# Altium footprint library XH250P 白色连接器.PcbLib: 26 footprints (part 1 of 2)
Each footprint in its own frame and in the unit in brackets; x right, y up, seen from the top. Pads: shape width x height; smd on the part's side, far side on the other; paste and mask are expansions set on the pad; w line width, h text height; cw(c..) or ccw(c..) is an arc to the next point about the centre after c.
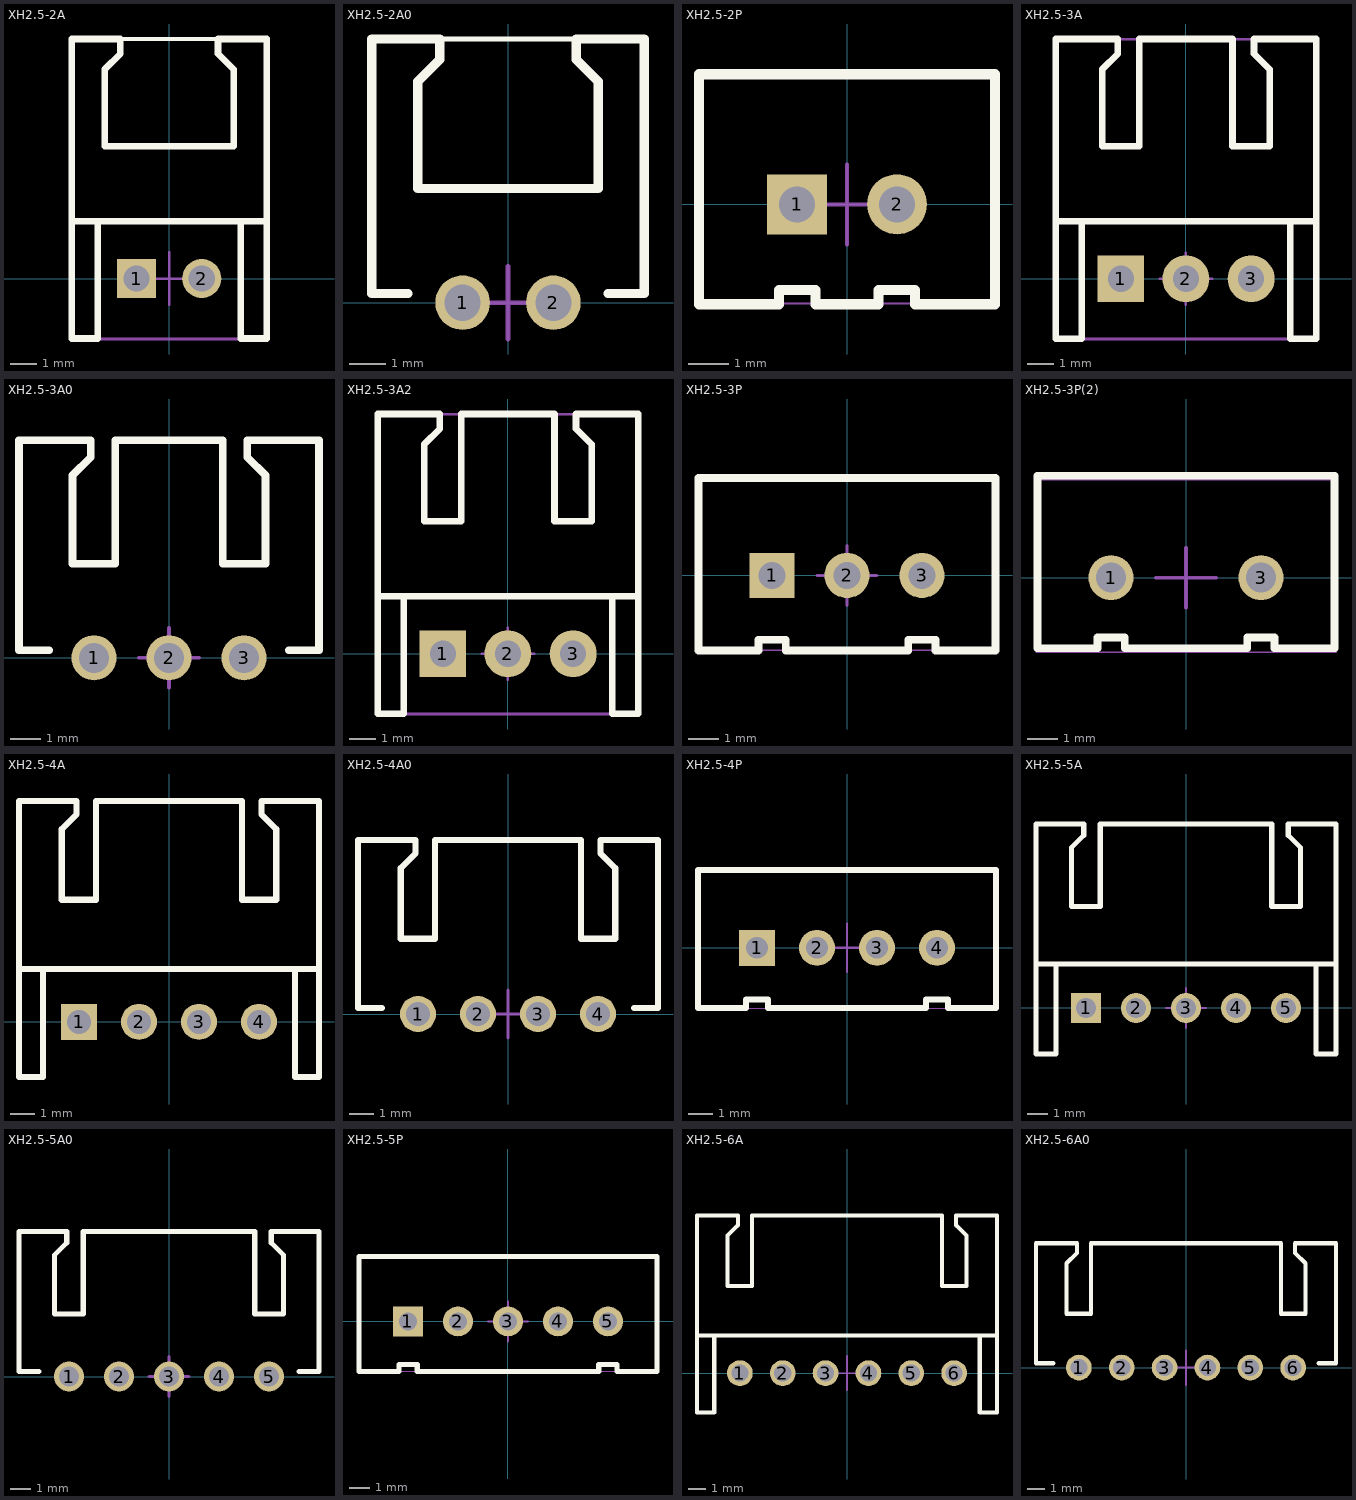
[diagram p0: the footprints below, top view; thin cyan lines are the x and y axes]

## XH2.5-2A [mm] "浙江合业电子"
height 5.75
pads (2):
  rect 1.5x1.5 hole 1: 1(-1.25,0)
  round 1.5 hole 1: 2(1.25,0)
Top Overlay:
  lines w0.15: -1.896,9.2 1.875,9.2
  lines w0.254: -3.75,2.2 3.75,2.2 ; -2.75,2.193 -2.75,-2.3 -3.75,-2.3 -3.75,9.2 -1.875,9.2 -1.875,8.637 -2.48,8.032 -2.48,5.085 2.48,5.085 2.48,8.032 1.875,8.637 1.875,9.2 3.75,9.2 3.75,-2.3 2.75,-2.3 2.75,2.181
Mechanical 13:
  lines w0.1: -3.766,-2.321 -3.766,9.179 3.734,9.179 3.734,-2.321 -3.766,-2.321
Mechanical 15:
  lines w0.1: -1,0 1,0 ; 0,-1 0,1
3D body: height 5.9, standoff -2.6, extent -3.766,-2.321 3.739,9.179

## XH2.5-2A0 [mm] "浙江合业电子"
height 5.75
pads (2):
  round 1.5 hole 1: 1(-1.25,0) 2(1.25,0)
Top Overlay:
  lines w0.15: -1.896,7.25 1.875,7.25
  lines w0.254: -2.75,0.25 -3.75,0.25 -3.75,7.25 -1.875,7.25 -1.875,6.687 -2.48,6.082 -2.48,3.135 2.48,3.135 2.48,6.082 1.875,6.687 1.875,7.25 3.75,7.25 3.75,0.25 2.75,0.25
Mechanical 15:
  lines w0.127: -1,0 0,0 ; 0,-1 0,0 ; 0,1 0,0 ; 1,0 0,0

## XH2.5-2P [mm] "JST XH白色座"
height 7
pads (2):
  rect 1.5x1.5 hole 0.9: 1(-1.25,0)
  round 1.5 hole 0.9: 2(1.25,0)
Top Overlay:
  lines w0.254: -3.7,-2.5 -3.7,3.25 3.7,3.25 3.7,-2.5 1.702,-2.5 1.702,-2.144 0.787,-2.144 0.787,-2.5 -0.787,-2.5 -0.787,-2.144 -1.702,-2.144 -1.702,-2.5 -3.7,-2.5
Mechanical 13:
  lines w0.05: -3.75,-2.487 -3.75,3.263 3.75,3.263 3.75,-2.487 -3.75,-2.487
Mechanical 15:
  lines w0.1: -1,0 1,0 ; 0,-1 0,1
3D body: height 7.05, standoff -3.35, extent -3.75,-2.487 3.75,3.263

## XH2.5-3A [mm] "浙江合业电子"
height 5.75
pads (3):
  rect 1.8x1.8 hole 1: 1(-2.5,0)
  round 1.8 hole 1: 2(0,0) 3(2.5,0)
Top Overlay:
  lines w0.254: -5,2.2 5,2.2 ; -4,2.193 -4,-2.3 -5,-2.3 -5,9.2 -2.612,9.2 -2.612,8.637 -3.217,8.032 -3.217,5.085 -1.789,5.085 -1.789,9.2 1.789,9.2 1.789,5.085 3.217,5.085 3.217,8.032 2.612,8.637 2.612,9.2 5,9.2 5,-2.3 4,-2.3 4,2.181
Mechanical 13:
  lines w0.1: -5,-2.311 -5,9.189 5.005,9.189 5.005,-2.311 -5,-2.311
Mechanical 15:
  lines w0.1: -1,0 1,0 ; 0,-1 0,1
3D body: height 5.9, standoff -2.6, extent -5,-2.311 5.005,9.189

## XH2.5-3A0 [mm] "浙江合业电子"
height 5.75
pads (3):
  round 1.5 hole 1: 1(-2.5,0) 2(0,0) 3(2.5,0)
Top Overlay:
  lines w0.254: -4,0.25 -5,0.25 -5,7.25 -2.612,7.25 -2.612,6.687 -3.217,6.082 -3.217,3.135 -1.789,3.135 -1.789,7.25 1.789,7.25 1.789,3.135 3.217,3.135 3.217,6.082 2.612,6.687 2.612,7.25 5,7.25 5,0.25 4,0.25
Mechanical 15:
  lines w0.127: -1,0 0,0 ; 0,-1 0,0 ; 0,1 0,0 ; 1,0 0,0

## XH2.5-3A2 [mm] "浙江合业电子"
height 5.75
pads (3):
  rect 1.8x1.8 hole 1: 1(-2.5,0)
  round 1.8 hole 1: 2(0,0) 3(2.5,0)
Top Overlay:
  lines w0.254: -5,2.2 5,2.2 ; -4,2.193 -4,-2.3 -5,-2.3 -5,9.2 -2.612,9.2 -2.612,8.637 -3.217,8.032 -3.217,5.085 -1.789,5.085 -1.789,9.2 1.789,9.2 1.789,5.085 3.217,5.085 3.217,8.032 2.612,8.637 2.612,9.2 5,9.2 5,-2.3 4,-2.3 4,2.181
Mechanical 13:
  lines w0.1: -5,-2.311 5.005,-2.311 5.005,9.189 -5,9.189 -5,-2.311
Mechanical 15:
  lines w0.1: -1,0 1,0 ; 0,-1 0,1
3D body: height 5.9, standoff -2.6, extent -5,-2.311 5.005,9.189

## XH2.5-3P [mm] "JST XH白色座"
height 7
pads (3):
  rect 1.5x1.5 hole 0.9: 1(-2.5,0)
  round 1.5 hole 0.9: 2(0,0) 3(2.5,0)
Top Overlay:
  lines w0.254: -4.95,-2.5 -2.952,-2.5 -2.952,-2.144 -2.037,-2.144 -2.037,-2.5 2.037,-2.5 2.037,-2.144 2.952,-2.144 2.952,-2.5 4.95,-2.5 4.95,3.25 -4.95,3.25 -4.95,-2.5
Mechanical 13:
  lines w0.05: -5,-2.487 -5,3.263 5,3.263 5,-2.487 -5,-2.487
Mechanical 15:
  lines w0.1: -1,0 1,0 ; 0,-1 0,1
3D body: height 7.05, standoff -3.35, extent -5,-2.487 5,3.263

## XH2.5-3P(2) [mm] "JST XH白色座"
height 7
pads (2):
  round 1.5 hole 1: 1(-2.5,0) 3(2.5,0)
Top Overlay:
  lines w0.254: -4.95,-2.35 -4.95,3.4 4.95,3.4 4.95,-2.35 2.952,-2.35 2.952,-1.994 2.037,-1.994 2.037,-2.35 -2.037,-2.35 -2.037,-1.994 -2.952,-1.994 -2.952,-2.35 -4.95,-2.35
Mechanical 13:
  lines w0.05: -5,-2.487 -5,3.263 5,3.263 5,-2.487 -5,-2.487
Mechanical 15:
  lines w0.127: -1,0 0,0 ; 0,-1 0,0 ; 0,1 0,0 ; 1,0 0,0
3D body: height 7.01, standoff -3.39, extent -5,-2.487 5.005,3.263

## XH2.5-4A [mm] "浙江合业电子"
height 5.75
pads (4):
  rect 1.5x1.5 hole 1: 1(-3.75,0)
  round 1.5 hole 1: 2(-1.25,0) 3(1.25,0) 4(3.75,0)
Top Overlay:
  lines w0.254: -6.25,2.2 6.25,2.2 ; -5.25,2.193 -5.25,-2.3 -6.25,-2.3 -6.25,9.2 -3.862,9.2 -3.862,8.637 -4.467,8.032 -4.467,5.085 -3.039,5.085 -3.039,9.2 3.039,9.2 3.039,5.085 4.467,5.085 4.467,8.032 3.862,8.637 3.862,9.2 6.25,9.2 6.25,-2.3 5.25,-2.3 5.25,2.181
3D body: height 5.9, standoff -2.85, extent -6.25,-2.286 6.255,9.214

## XH2.5-4A0 [mm] "浙江合业电子"
height 5.75
pads (4):
  round 1.5 hole 1: 1(-3.75,0) 2(-1.25,0) 3(1.25,0) 4(3.75,0)
Top Overlay:
  lines w0.254: -5.25,0.25 -6.25,0.25 -6.25,7.25 -3.862,7.25 -3.862,6.687 -4.467,6.082 -4.467,3.135 -3.039,3.135 -3.039,7.25 3.039,7.25 3.039,3.135 4.467,3.135 4.467,6.082 3.862,6.687 3.862,7.25 6.25,7.25 6.25,0.25 5.25,0.25
Mechanical 15:
  lines w0.127: -1,0 0,0 ; 0,-1 0,0 ; 0,1 0,0 ; 1,0 0,0

## XH2.5-4P [mm] "JST XH白色座"
height 7
pads (4):
  rect 1.5x1.5 hole 0.9: 1(-3.75,0)
  round 1.5 hole 0.9: 2(-1.25,0) 3(1.25,0) 4(3.75,0)
Top Overlay:
  lines w0.254: -6.2,-2.5 -4.202,-2.5 -4.202,-2.144 -3.287,-2.144 -3.287,-2.5 3.287,-2.5 3.287,-2.144 4.202,-2.144 4.202,-2.5 6.2,-2.5 6.2,3.25 -6.2,3.25 -6.2,-2.5
Mechanical 13:
  lines w0.05: -6.25,-2.512 -6.25,3.238 6.25,3.238 6.25,-2.512 -6.25,-2.512
Mechanical 15:
  lines w0.1: -1,0 1,0 ; 0,-1 0,1
3D body: height 7.05, standoff -3.35, extent -6.25,-2.512 6.25,3.238

## XH2.5-5A [mm] "浙江合业电子"
height 5.75
pads (5):
  rect 1.5x1.5 hole 1: 1(-5,0)
  round 1.5 hole 1: 2(-2.5,0) 3(0,0) 4(2.5,0) 5(5,0)
Top Overlay:
  lines w0.254: -7.5,2.2 7.5,2.2 ; -6.5,2.193 -6.5,-2.3 -7.5,-2.3 -7.5,9.2 -5.112,9.2 -5.112,8.637 -5.717,8.032 -5.717,5.085 -4.289,5.085 -4.289,9.2 4.289,9.2 4.289,5.085 5.717,5.085 5.717,8.032 5.112,8.637 5.112,9.2 7.5,9.2 7.5,-2.3 6.5,-2.3 6.5,2.181
Mechanical 15:
  lines w0.1: -1,0 1,0 ; 0,-1 0,1
3D body: height 5.9, standoff -2.85, extent -7.5,-2.28 7.505,9.22

## XH2.5-5A0 [mm] "浙江合业电子"
height 5.75
pads (5):
  round 1.5 hole 1: 1(-5,0) 2(-2.5,0) 3(0,0) 4(2.5,0) 5(5,0)
Top Overlay:
  lines w0.254: -6.5,0.25 -7.5,0.25 -7.5,7.25 -5.112,7.25 -5.112,6.687 -5.717,6.082 -5.717,3.135 -4.289,3.135 -4.289,7.25 4.289,7.25 4.289,3.135 5.717,3.135 5.717,6.082 5.112,6.687 5.112,7.25 7.5,7.25 7.5,0.25 6.5,0.25
Mechanical 15:
  lines w0.127: -1,0 0,0 ; 0,-1 0,0 ; 0,1 0,0 ; 1,0 0,0

## XH2.5-5P [mm] "JST XH白色座"
height 7
pads (5):
  rect 1.5x1.5 hole 0.9: 1(-5,0)
  round 1.5 hole 0.9: 2(-2.5,0) 3(0,0) 4(2.5,0) 5(5,0)
Top Overlay:
  lines w0.254: -7.45,-2.513 -5.452,-2.513 -5.452,-2.158 -4.537,-2.158 -4.537,-2.513 4.537,-2.513 4.537,-2.158 5.452,-2.158 5.452,-2.513 7.45,-2.513 7.45,3.237 -7.45,3.237 -7.45,-2.513
Mechanical 13:
  lines w0.05: -7.5,-2.5 -7.5,3.25 7.5,3.25 7.5,-2.5 -7.5,-2.5
Mechanical 15:
  lines w0.1: -1,0 1,0 ; 0,-1 0,1
3D body: height 7.05, standoff -3.35, extent -7.5,-2.5 7.5,3.25

## XH2.5-6A [mm] "浙江合业电子"
height 5.75
pads (6):
  round 1.5 hole 1: 1(-6.25,0) 2(-3.75,0) 3(-1.25,0) 4(1.25,0) 5(3.75,0) 6(6.25,0)
Top Overlay:
  lines w0.254: -8.75,2.2 8.75,2.2 ; -7.75,2.193 -7.75,-2.3 -8.75,-2.3 -8.75,9.2 -6.362,9.2 -6.362,8.637 -6.967,8.032 -6.967,5.085 -5.539,5.085 -5.539,9.2 5.539,9.2 5.539,5.085 6.967,5.085 6.967,8.032 6.362,8.637 6.362,9.2 8.75,9.2 8.75,-2.3 7.75,-2.3 7.75,2.181
Mechanical 15:
  lines w0.1: -1,0 1,0 ; 0,-1 0,1
3D body: height 5.9, standoff -2.85, extent -8.75,-2.286 8.755,9.214

## XH2.5-6A0 [mm] "浙江合业电子"
height 5.75
pads (6):
  round 1.5 hole 1: 1(-6.25,0) 2(-3.75,0) 3(-1.25,0) 4(1.25,0) 5(3.75,0) 6(6.25,0)
Top Overlay:
  lines w0.254: -7.75,0.25 -8.75,0.25 -8.75,7.25 -6.362,7.25 -6.362,6.687 -6.967,6.082 -6.967,3.135 -5.539,3.135 -5.539,7.25 5.539,7.25 5.539,3.135 6.967,3.135 6.967,6.082 6.362,6.687 6.362,7.25 8.75,7.25 8.75,0.25 7.75,0.25
Mechanical 15:
  lines w0.127: -1,0 0,0 ; 0,-1 0,0 ; 0,1 0,0 ; 1,0 0,0